# EAGLE library part LPC1226FBD64/301,1 (library NXP_By_element14_Batch_1)
32-bit ARM Cortex-M0 microcontroller up to 128 kB flash and 8 kB SRAM
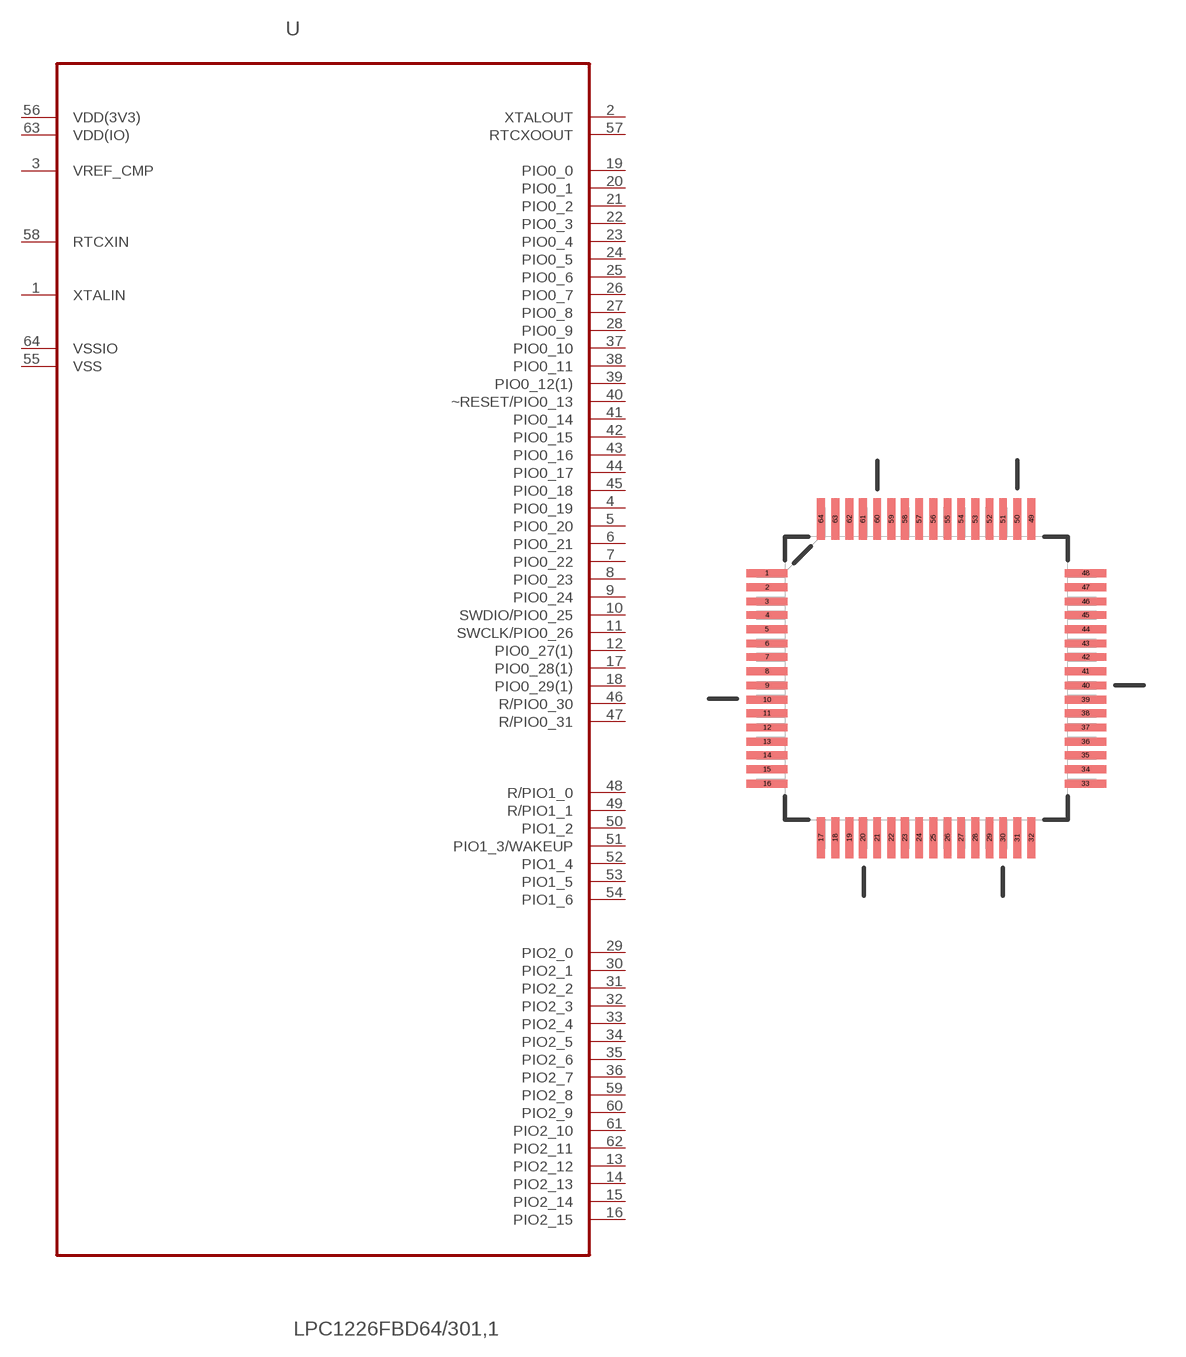
[diagram p340: symbol with the pads of QFP50P1200X1200X160-64N; footprint QFP50P1200X1200X160-64N]

Designator prefix U

## LPC1226FBD64/301,1 (MPN: LPC1226FBD64/301,1; OC_FARNELL: 1868121; OC_NEWARK: 24T8430; P1I: o; PACKAGE: LQFP-64; SUPPLIER: NXP)  [QFP50P1200X1200X160-64N]
1  XTALIN  in
2  XTALOUT  out
3  VREF_CMP  pwr
4  PIO0_19
5  PIO0_20
6  PIO0_21
7  PIO0_22
8  PIO0_23
9  PIO0_24
10  SWDIO/PIO0_25
11  SWCLK/PIO0_26
12  PIO0_27(1)
13  PIO2_12
14  PIO2_13
15  PIO2_14
16  PIO2_15
17  PIO0_28(1)
18  PIO0_29(1)
19  PIO0_0
20  PIO0_1
21  PIO0_2
22  PIO0_3
23  PIO0_4
24  PIO0_5
25  PIO0_6
26  PIO0_7
27  PIO0_8
28  PIO0_9
29  PIO2_0
30  PIO2_1
31  PIO2_2
32  PIO2_3
33  PIO2_4
34  PIO2_5
35  PIO2_6
36  PIO2_7
37  PIO0_10
38  PIO0_11
39  PIO0_12(1)
40  ~RESET/PIO0_13  in
41  PIO0_14
42  PIO0_15
43  PIO0_16
44  PIO0_17
45  PIO0_18
46  R/PIO0_30
47  R/PIO0_31
48  R/PIO1_0
49  R/PIO1_1
50  PIO1_2
51  PIO1_3/WAKEUP
52  PIO1_4
53  PIO1_5
54  PIO1_6
55  VSS  pas
56  VDD(3V3)  pwr
57  RTCXOOUT  out
58  RTCXIN  in
59  PIO2_8
60  PIO2_9
61  PIO2_10
62  PIO2_11
63  VDD(IO)  pwr
64  VSSIO  pas

## Footprint QFP50P1200X1200X160-64N (pad centres in mm)
smd 1.473 x 0.279: 1 -5.69,3.759; 2 -5.69,3.251; 3 -5.69,2.743; 4 -5.69,2.261; 5 -5.69,1.753; 6 -5.69,1.245; 7 -5.69,0.762; 8 -5.69,0.254; 9 -5.69,-0.254; 10 -5.69,-0.762; 11 -5.69,-1.245; 12 -5.69,-1.753; 13 -5.69,-2.261; 14 -5.69,-2.743; 15 -5.69,-3.251; 16 -5.69,-3.759; 33 5.69,-3.759; 34 5.69,-3.251; 35 5.69,-2.743; 36 5.69,-2.261; 37 5.69,-1.753; 38 5.69,-1.245; 39 5.69,-0.762; 40 5.69,-0.254; 41 5.69,0.254; 42 5.69,0.762; 43 5.69,1.245; 44 5.69,1.753; 45 5.69,2.261; 46 5.69,2.743; 47 5.69,3.251; 48 5.69,3.759
smd 0.279 x 1.473: 17 -3.759,-5.69; 18 -3.251,-5.69; 19 -2.743,-5.69; 20 -2.261,-5.69; 21 -1.753,-5.69; 22 -1.245,-5.69; 23 -0.762,-5.69; 24 -0.254,-5.69; 25 0.254,-5.69; 26 0.762,-5.69; 27 1.245,-5.69; 28 1.753,-5.69; 29 2.261,-5.69; 30 2.743,-5.69; 31 3.251,-5.69; 32 3.759,-5.69; 49 3.759,5.69; 50 3.251,5.69; 51 2.743,5.69; 52 2.261,5.69; 53 1.753,5.69; 54 1.245,5.69; 55 0.762,5.69; 56 0.254,5.69; 57 -0.254,5.69; 58 -0.762,5.69; 59 -1.245,5.69; 60 -1.753,5.69; 61 -2.261,5.69; 62 -2.743,5.69; 63 -3.251,5.69; 64 -3.759,5.69